# Altium footprint library R-78Exx-1.0.PcbLib: 1 footprints
Each footprint in its own frame and in the unit in brackets; x right, y up, seen from the top. Pads: shape width x height; smd on the part's side, far side on the other; paste and mask are expansions set on the pad; w line width, h text height; cw(c..) or ccw(c..) is an arc to the next point about the centre after c.
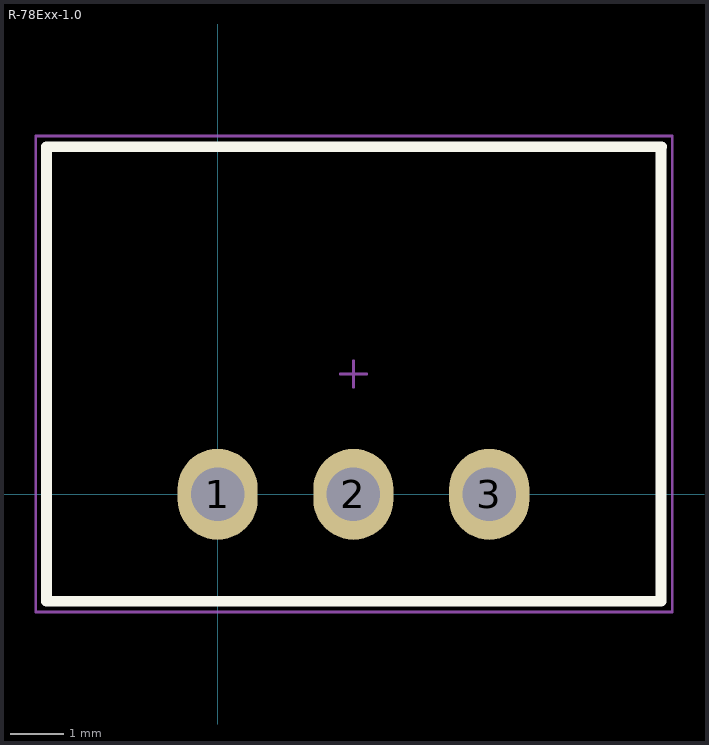
[diagram p0: the footprint, top view; thin cyan lines are the x and y axes]

## R-78Exx-1.0 [mm]
pads (3):
  oval 1.5x1.7 hole 1: 1(0,0) 2(2.54,0) 3(5.08,0)
Top Overlay:
  lines w0.2: 8.29,6.5 8.29,-2 -3.2,-2 ; 8.3,6.5 -3.2,6.5 -3.2,-2 ; -3.2,-2 -3.2,-2
Mechanical 13:
  lines w0.1: 8.29,6.5 8.29,-2 -3.2,-2 -3.2,6.5 8.3,6.5
Mechanical 15:
  lines w0.05: 2.29,2.25 2.79,2.25 ; 2.54,2 2.54,2.5 ; -3.4,-2.2 -3.4,6.7 8.5,6.7 8.5,-2.2 -3.4,-2.2
3D body "User Library-R-78Cxx-1_0.step": height 10.4, standoff -4.1, extent -3.3,-1.95 8.3,6.55